# Altium footprint library F主板_V0.PcbLib: 63 footprints (part 4 of 4)
Each footprint in its own frame and in the unit in brackets; x right, y up, seen from the top. Pads: shape width x height; smd on the part's side, far side on the other; paste and mask are expansions set on the pad; w line width, h text height; cw(c..) or ccw(c..) is an arc to the next point about the centre after c.
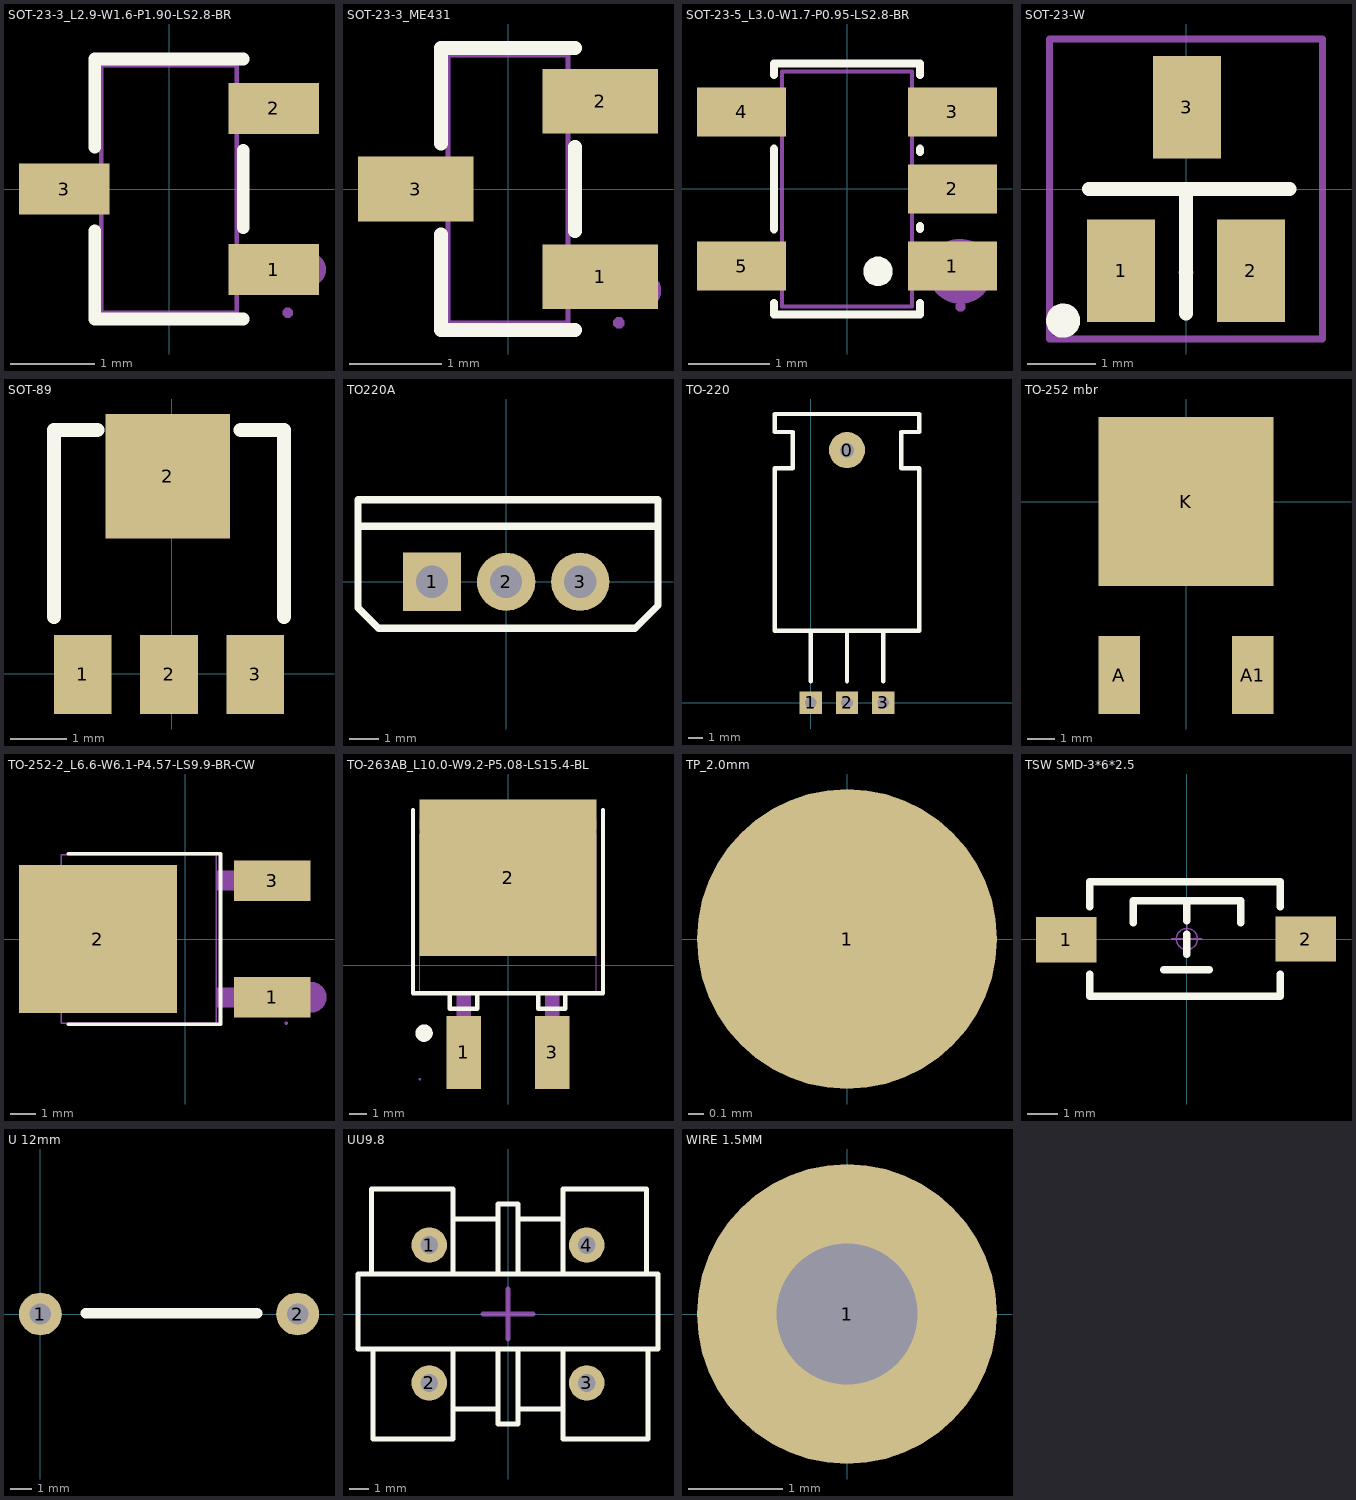
[diagram p3: the footprints below, top view; thin cyan lines are the x and y axes]

## SOT-23-3_L2.9-W1.6-P1.90-LS2.8-BR [mm]
pads (3):
  rect 1.07x0.6 smd: 1(1.235,-0.95) 2(1.235,0.95) 3(-1.235,0)
Top Overlay:
  lines w0.152: -0.876,-0.495 -0.876,-1.536 0.876,-1.536 ; -0.876,0.495 -0.876,1.536 0.876,1.536 ; 0.876,-0.455 0.876,0.455
Mechanical 6:
  circle w0.2: c1.651,-0.95 r0.1
Mechanical 15:
  region: 1.46,-1.46 1.46,-1.435 1.425,-1.4 1.375,-1.4 1.34,-1.435 1.34,-1.46 1.34,-1.485 1.375,-1.52 1.425,-1.52 1.46,-1.485
  region: 0.95,-1.15 0.95,-0.75 1.4,-0.75 1.4,-1.15
  region: 0.79,-1.15 0.79,-0.75 0.96,-0.75 0.96,-1.15
  region: 0.95,0.75 0.95,1.15 1.4,1.15 1.4,0.75
  region: 0.79,0.75 0.79,1.15 0.96,1.15 0.96,0.75
  region: -0.95,-0.2 -0.95,0.2 -1.4,0.2 -1.4,-0.2
  region: -0.96,-0.2 -0.96,0.2 -0.79,0.2 -0.79,-0.2
  lines w0.051: -0.8,-1.46 -0.8,1.46 0.8,1.46 0.8,-1.46 -0.8,-1.46

## SOT-23-3_ME431 [mm]
pads (3):
  rect 1.25x0.7 smd: 1(1,-0.95) 2(1,0.95) 3(-1,0)
Top Overlay:
  lines w0.152: -0.726,-0.495 -0.726,-1.526 0.726,-1.526 ; -0.726,0.495 -0.726,1.526 0.726,1.526 ; 0.726,-0.455 0.726,0.455
Mechanical 6:
  circle w0.2: c1.46,-1.1 r0.1
Mechanical 15:
  region: 1.26,-1.45 1.259,-1.426 1.224,-1.392 1.176,-1.392 1.141,-1.426 1.14,-1.45 1.141,-1.474 1.176,-1.508 1.224,-1.508 1.259,-1.474
  region: 0.64,0.735 0.64,1.165 0.91,1.165 0.91,0.735
  region: 0.9,0.735 0.9,1.165 1.2,1.165 1.2,0.735
  region: 0.64,-1.165 0.64,-0.735 0.91,-0.735 0.91,-1.165
  region: 0.9,-1.165 0.9,-0.735 1.2,-0.735 1.2,-1.165
  region: -0.91,-0.215 -0.91,0.215 -0.64,0.215 -0.64,-0.215
  region: -1.2,-0.215 -1.2,0.215 -0.9,0.215 -0.9,-0.215
  lines w0.051: -0.65,-1.45 -0.65,1.45 0.65,1.45 0.65,-1.45 -0.65,-1.45

## SOT-23-5_L3.0-W1.7-P0.95-LS2.8-BR [mm]
pads (5):
  rect 1.1x0.6 smd: 1(1.3,-0.95) 2(1.3,0) 3(1.3,0.95) 4(-1.3,0.95) 5(-1.3,-0.95)
Top Overlay:
  region: 0.204,-1.016 0.204,-0.981 0.23,-0.915 0.28,-0.864 0.346,-0.837 0.416,-0.837 0.482,-0.864 0.532,-0.915 0.558,-0.981 0.558,-1.016 0.558,-1.051 0.532,-1.117 0.482,-1.168 0.416,-1.195 0.346,-1.195 0.28,-1.168 0.23,-1.117 0.204,-1.051
  lines w0.1: -0.9,-1.404 -0.9,-1.55 0.9,-1.55 0.9,-1.404 ; -0.9,-0.496 -0.9,0.496 ; -0.9,1.404 -0.9,1.55 0.9,1.55 0.9,1.404 ; 0.9,-0.496 0.9,-0.454 ; 0.9,0.454 0.9,0.496
Mechanical 6:
  circle w0.4: c1.397,-1.016 r0.2
Mechanical 15:
  region: 1.46,-1.45 1.46,-1.425 1.425,-1.39 1.375,-1.39 1.34,-1.425 1.34,-1.45 1.34,-1.475 1.375,-1.51 1.425,-1.51 1.46,-1.475
  region: 0.79,-1.15 0.79,-0.75 0.96,-0.75 0.96,-1.15
  region: 0.95,-1.15 0.95,-0.75 1.4,-0.75 1.4,-1.15
  region: 0.79,-0.2 0.79,0.2 0.96,0.2 0.96,-0.2
  region: 0.95,-0.2 0.95,0.2 1.4,0.2 1.4,-0.2
  region: 0.79,0.75 0.79,1.15 0.96,1.15 0.96,0.75
  region: 0.95,0.75 0.95,1.15 1.4,1.15 1.4,0.75
  region: -0.96,0.75 -0.96,1.15 -0.79,1.15 -0.79,0.75
  region: -1.4,0.75 -1.4,1.15 -0.95,1.15 -0.95,0.75
  region: -0.96,-1.15 -0.96,-0.75 -0.79,-0.75 -0.79,-1.15
  region: -1.4,-1.15 -1.4,-0.75 -0.95,-0.75 -0.95,-1.15
  lines w0.051: -0.8,-1.45 0.8,-1.45 0.8,1.45 -0.8,1.45 -0.8,-1.45

## SOT-23-W [mm]
height 10
pads (3):
  rect 1x1.5 smd: 1(-0.953,-1.2) 2(0.953,-1.2) 3(0.013,1.2)
Top Overlay:
  circle w0.25: c-1.801,-1.93 r0.125
  lines w0.2: -1.422,0 1.524,0 ; 0,-1.829 0,0
Mechanical 15:
  lines w0.1: -0.064,-1.227 0.064,-1.227 ; -2,-2.2 2,-2.2 2,2.2 -2,2.2 -2,-2.2
3D body "SOT-23-3.STEP": height -0.38, standoff -1.58, extent -1.425,-1.375 1.475,1.425
3D body: height 0.1, standoff 0, extent -1.999,-2.199 1.999,2.199

## SOT-89 [mil]
height 19.68
pads (4):
  rect 40x55 smd: 1(-61.82,-0.57) 2(-1.82,-0.57) 3(58.18,-0.57)
  rect 86.61x86.61 smd: 2(-2.76,137.22)
Top Overlay:
  lines w10: -81.82,39.43 -81.82,169.43 -51.82,169.43 ; 48.18,169.43 78.18,169.43 78.18,39.43
3D body "SOT-89.STEP": height 59.45, standoff 0, extent -90.07,-6.45 87.1,162.85

## TO220A [mm] "220，3脚晶体管"
height 0.5
pads (3):
  rect 2x2 hole 1.1: 1(-2.54,0)
  round 2 hole 1.1: 2(0,0) 3(2.54,0)
Top Overlay:
  lines w0.254: -4.928,1.905 5.131,1.905 ; -5.08,-0.889 -5.08,2.819 5.207,2.819 5.207,-0.813 4.42,-1.6 -4.369,-1.6 -5.08,-0.889
3D body "TO220A.STEP": height 18.5, standoff -4, extent -5.15,-1.53 5.15,2.9

## TO-220 [mil]
height 19.68
pads (4):
  round 100 hole 40: 0(100,700)
  rect 62x62 hole 32: 1(0,0) 2(100,0) 3(200,0)
Top Overlay:
  lines w12: 0,60 0,200 ; 100,60 100,200 ; 200,60 200,200 ; -100,200 300,200 300,650 250,650 250,750 300,750 300,800 -100,800 -100,750 -50,750 -50,650 -100,650 -100,200

## TO-252 mbr [mm]
pads (3):
  rect 1.5x2.8 smd: A(-2.4,-6.25) A1(2.4,-6.25)
  rect 6.3x6.1 smd: K(0,0)

## TO-252-2_L6.6-W6.1-P4.57-LS9.9-BR-CW [mm]
pads (3):
  rect 3x1.6 smd: 1(3.424,-2.29) 3(3.424,2.29)
  rect 6.2x5.8 smd: 2(-3.424,0)
Top Overlay:
  lines w0.152: -4.585,-3.346 1.383,-3.346 1.383,3.346 -4.585,3.346
Mechanical 6:
  circle w0.6: c4.953,-2.286 r0.3
Mechanical 15:
  region: -4.954,2.505 -0.938,2.505 -0.938,-2.505 -4.954,-2.505 -5.954,-1.505 -5.954,1.505
  region: 2.371,1.91 2.371,2.67 3.961,2.67 3.961,1.91
  region: 1.211,1.91 1.211,2.67 2.381,2.67 2.381,1.91
  region: 2.371,-2.67 2.371,-1.91 3.961,-1.91 3.961,-2.67
  region: 1.211,-2.67 1.211,-1.91 2.381,-1.91 2.381,-2.67
  region: 4.021,-3.3 4.021,-3.275 3.986,-3.24 3.937,-3.24 3.901,-3.275 3.901,-3.3 3.901,-3.325 3.937,-3.36 3.986,-3.36 4.021,-3.325
  lines w0.051: -4.874,-3.3 -4.874,3.3 1.221,3.3 1.221,-3.3 -4.874,-3.3

## TO-263AB_L10.0-W9.2-P5.08-LS15.4-BL [mm]
pads (3):
  rect 2x4.2 smd: 1(-2.54,-5.025) 3(2.54,-5.025)
  rect 10.2x9 smd: 2(0,5.025)
Top Overlay:
  circle w0.5: c-4.826,-3.911 r0.25
  lines w0.254: -5.461,8.916 -5.461,-1.625 5.461,-1.625 5.461,8.916 ; -3.349,-1.625 -3.349,-2.514 -1.778,-2.514 -1.778,-1.625 ; 1.731,-1.625 1.731,-2.514 3.302,-2.514 3.302,-1.625
Mechanical 6:
  circle w0.8: c-2.522,-5.178 r0.1
Mechanical 15:
  region: -5.01,-6.565 -5.011,-6.54 -5.046,-6.506 -5.095,-6.506 -5.13,-6.54 -5.13,-6.565 -5.13,-6.589 -5.095,-6.624 -5.046,-6.624 -5.011,-6.589
  region: -4.5,7.209 -4.5,1.367 4.5,1.367 4.5,7.209 3.6,7.209 3.6,7.844 5.07,7.844 5.07,8.352 4.4,8.86 -4.4,8.86 -5.07,8.352 -5.07,7.844 -3.6,7.844 -3.6,7.209
  region: 2.133,-3.375 2.133,-1.615 2.947,-1.615 2.947,-3.375
  region: 2.133,-6.565 2.133,-3.365 2.947,-3.365 2.947,-6.565
  region: -2.947,-3.375 -2.947,-1.615 -2.133,-1.615 -2.133,-3.375
  region: -2.947,-6.565 -2.947,-3.365 -2.133,-3.365 -2.133,-6.565
  lines w0.051: -5.07,-1.625 5.07,-1.625 5.07,7.525 -5.07,7.525 -5.07,-1.625

## TP_2.0mm [mm]
height 0.5
pads (1):
  round 2 smd: 1(0,0)

## TSW SMD-3*6*2.5 [mm] "3*6*2.5mm"
height 0.5
pads (2):
  rect 2x1.5 smd: 1(-3.996,-0.02) 2(3.937,0)
Top Overlay:
  lines w0.254: -3.212,-1.168 -3.212,-1.9 3.088,-1.9 3.088,-1.168 ; -3.212,1.067 -3.212,1.9 3.088,1.9 3.088,1.067 ; -1.778,0.533 -1.778,1.27 1.778,1.27 1.778,0.533 ; -0.762,-1.016 0.737,-1.016 ; 0,-0.508 0,0.152 ; 0,0.61 0,1.27
Mechanical 15:
  circle w0.05: c0,0 r0.35
  lines w0.05: -0.5,0 0.5,0 ; 0,-0.5 0,0.5
3D body "TSW SMD-3x6x2.5.STEP": height 2.59, standoff -0.03, extent -4,-1.877 4,1.623

## U 12mm [mm]
pads (2):
  round 2 hole 1: 1(0,0) 2(12,0)
Top Overlay:
  lines w0.5: 2.11,0.03 10.11,0.03

## UU9.8 [mm] "17*12*17mm(长宽高）"
height 0.5
pads (4):
  round 1.8 hole 0.9: 1(-4,3.5) 2(-4,-3.5) 3(4,-3.5) 4(4,3.5)
Top Overlay:
  lines w0.254: -6.943,2.032 -6.943,6.35 -2.794,6.35 -2.794,2.032 ; -6.858,-1.778 -6.858,-6.35 -2.794,-6.35 -2.794,-1.778 ; -2.794,-4.826 -0.638,-4.826 ; -2.794,4.826 -0.508,4.826 ; -0.508,-1.778 -0.508,-5.588 0.508,-5.588 0.508,-1.778 ; -0.508,2.032 -0.508,5.588 0.508,5.588 0.508,2.032 ; 0.508,-4.826 2.794,-4.826 ; 0.508,4.826 2.794,4.826 ; 2.794,-1.778 2.794,-6.35 7.112,-6.35 7.112,-1.778 ; 2.794,2.032 2.794,6.35 7.027,6.35 7.027,2.032 ; -7.62,-1.778 7.62,-1.778 7.62,2.032 -7.62,2.032 -7.62,-1.778
Mechanical 15:
  lines w0.254: -1.27,0 1.27,0 ; 0,-1.27 0,1.27
3D body "UU9.8.STEP": height 17.05, standoff -3.45, extent -8.5,-6 8.5,6

## WIRE 1.5MM [mm]
height 0.5
pads (1):
  round 3.2 hole 1.5: 1(0,0)